# EAGLE library part 1190364 (library 1190364)
Fixed Terminal Blocks LPTA 2,5/ 3-5,0 Source: Datasheet <https://www.phoenixcontact.com/nl-nl/producten/printplaatklem-lpta-25-3-50-1190364>
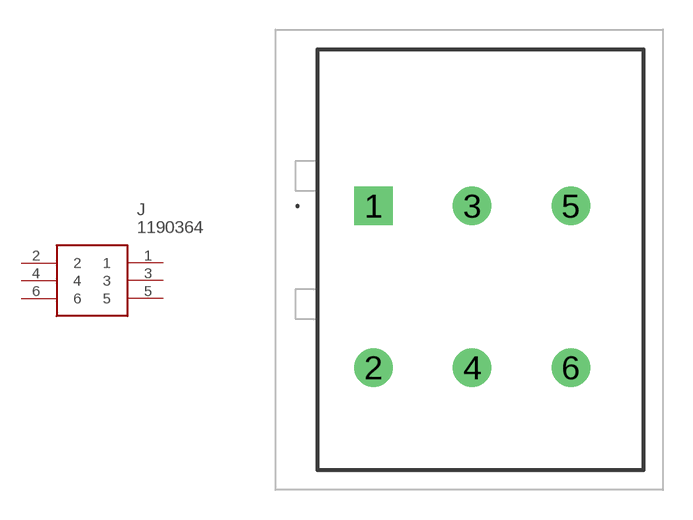
[diagram p0: symbol with the pads of 1190364; footprint 1190364]

Designator prefix J

## 1190364 (Description: Fixed Terminal Blocks LPTA 2,5/ 3-5,0; Height: 22.65mm; Manufacturer_Name: Phoenix Contact; Manufacturer_Part_Number: 1190364; Mouser_Part_Number: 651-1190364; Mouser_Price-Stock: https://www.mouser.co.uk/ProductDetail/Phoenix-Contact/1190364?qs=QNEnbhJQKvaxxoSFQSEyNA%3D%3D)  [1190364]
1  1
2  2
3  3
4  4
5  5
6  6

## Footprint 1190364 (pad centres in mm)
1190364-3
drill 1.3 pad 1.95 square: 1 0,0
drill 1.3 pad 1.95: 2 0,-8.2; 3 5,0; 4 5,-8.2; 5 10,0; 6 10,-8.2